# Altium footprint library Alpha_RD901F-20-15R1.PcbLib: 1 footprints
Each footprint in its own frame and in the unit in brackets; x right, y up, seen from the top. Pads: shape width x height; smd on the part's side, far side on the other; paste and mask are expansions set on the pad; w line width, h text height; cw(c..) or ccw(c..) is an arc to the next point about the centre after c.
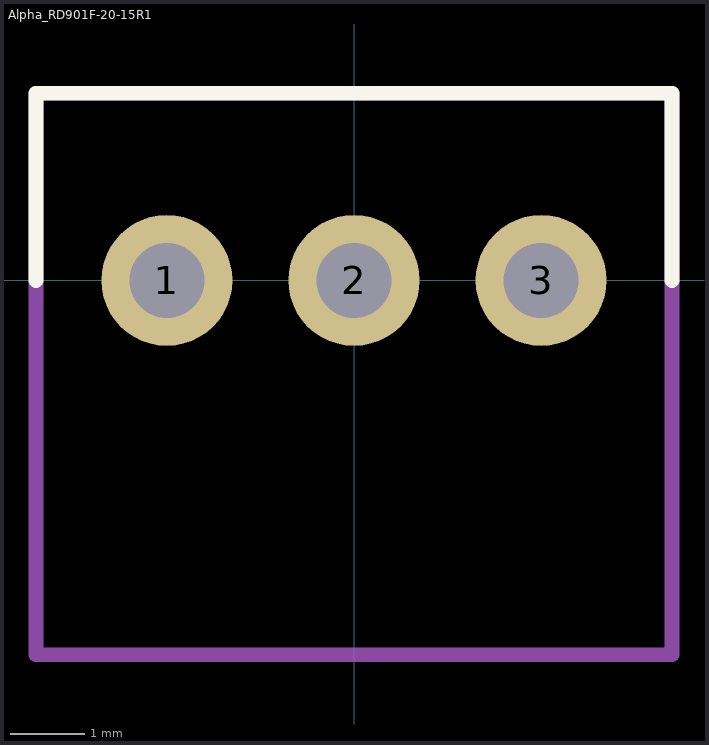
[diagram p0: the footprint, top view; thin cyan lines are the x and y axes]

## Alpha_RD901F-20-15R1 [mm]
pads (3):
  round 1.75 hole 1: 1(-2.5,0) 2(0,0) 3(2.5,0)
Top Overlay:
  lines w0.2: -4.25,0 -4.25,2.5 4.25,2.5 4.25,0
Mechanical 15:
  lines w0.2: -4.25,-5 -4.25,2.5 4.25,2.5 4.25,-5 -4.25,-5